# Altium integrated library антенна.IntLib: 1 symbol
Pins are listed as number, name and electrical type; pins without a type are passive.

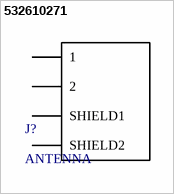
[diagram p0: symbol 532610271]

## 532610271
designator J?, comment ANTENNA
Connector Header Surface Mount, Right Angle 2 position 0.049 (1.25mm); MP: 532610271; MF: Molex; Purchase-URL: https://pricing.snapeda.com/search/part/532610271/?ref=eda; Value: *; Package: None; Check_prices: https://www.snapeda.com/parts/532610271/Molex/view-part/?ref=eda; Price: None; Availability: In Stock; SnapEDA_Link: https://www.snapeda.com/parts/532610271/Molex/view-part/?ref=snap
footprint MOLEX_532610271
pins: 1, 2, S1 SHIELD1, S2 SHIELD2